# Altium schematic symbol library Capactitor.SchLib: 2 symbols
Pins are listed as number, name and electrical type; pins without a type are passive.

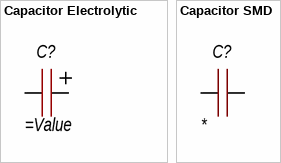
[diagram p0: symbols Сapacitor Electrolytic to Сapacitor SMD]

## Сapacitor Electrolytic
designator C?
footprint CAP:D13x20x5
footprint CAP:D16x20x7.5
footprint CAPAE-D4.0x5.4
footprint CAPAE-D5.0x5.4
footprint CAPAE-D6.3x5.4
footprint CAPAE-D8.0x6.2
footprint CAPAE-D8.0x10.5
footprint CAPT: tepy A
footprint CAPT: tepy B
footprint CAPT: tepy C
footprint CAPT: tepy D
footprint CAPAE-D10.0x10.5
pins: 1, 2
1 alternate drawing of the same symbol

## Сapacitor SMD
designator C?
Case: *; HelpURL: *; Manufacature: *; Model: *; Value: *
footprint CAP:0402
footprint CAP:0603
footprint CAP:0603_2
footprint CAP:0805
footprint CAP:1206
footprint CAP:1210
pins: 1, 2